# Altium schematic symbol library Symbol_Lib.SchLib: 5 symbols
Pins are listed as number, name and electrical type; pins without a type are passive.

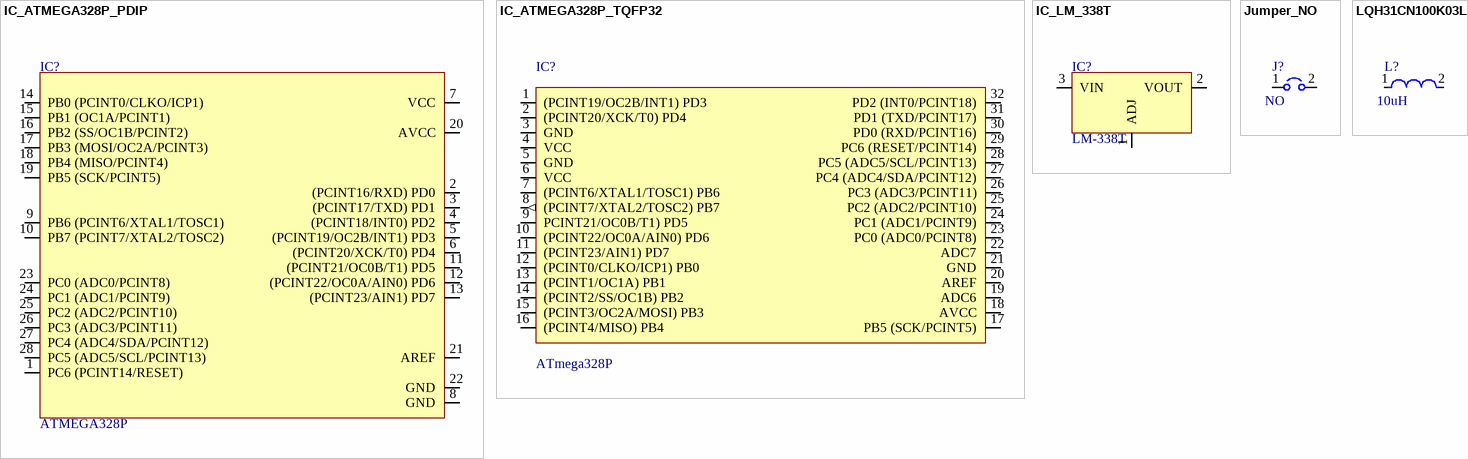
[diagram p0: symbols IC_ATMEGA328P_PDIP to LQH31CN100K03L]

## IC_ATMEGA328P_PDIP
designator IC?, comment ATMEGA328P
Microcontroller, ATmega328P, 8-bit, PDIP-28 32kB Flash
footprint DIP28_P2.54mm_7.62mm
pins: 1 PC6 (PCINT14/RESET) , 2 (PCINT16/RXD) PD0, 3 (PCINT17/TXD) PD1, 4 (PCINT18/INT0) PD2, 5 (PCINT19/OC2B/INT1) PD3, 6 (PCINT20/XCK/T0) PD4, 7 VCC (power), 8 GND (power), 9 PB6 (PCINT6/XTAL1/TOSC1), 10 PB7 (PCINT7/XTAL2/TOSC2), 11 (PCINT21/OC0B/T1) PD5, 12 (PCINT22/OC0A/AIN0) PD6, 13 (PCINT23/AIN1) PD7, 14 PB0 (PCINT0/CLKO/ICP1), 15 PB1 (OC1A/PCINT1), 16 PB2 (SS/OC1B/PCINT2), 17 PB3 (MOSI/OC2A/PCINT3), 18 PB4 (MISO/PCINT4), 19 PB5 (SCK/PCINT5), 20 AVCC (power), 21 AREF (power), 22 GND (power), 23 PC0 (ADC0/PCINT8), 24 PC1 (ADC1/PCINT9), 25 PC2 (ADC2/PCINT10), 26 PC3 (ADC3/PCINT11), 27 PC4 (ADC4/SDA/PCINT12), 28 PC5 (ADC5/SCL/PCINT13)

## IC_ATMEGA328P_TQFP32
designator IC?, comment ATmega328P
Microcontroller, ATmega328P, 8-bit, TQFP-32, 32kB Flash
footprint TQFP80P900X900X120-32N (TQFP, 32-Leads, Body 7.00x7.00mm, Pitch 0.80mm, IPC Medium Density)
pins: 1 (PCINT19/OC2B/INT1) PD3, 2 (PCINT20/XCK/T0) PD4, 3 GND (power), 4 VCC (power), 5 GND (power), 6 VCC (power), 7 (PCINT6/XTAL1/TOSC1) PB6, 8 (PCINT7/XTAL2/TOSC2) PB7 (out), 9 PCINT21/OC0B/T1) PD5, 10 (PCINT22/OC0A/AIN0) PD6, 11 (PCINT23/AIN1) PD7, 12 (PCINT0/CLKO/ICP1) PB0, 13 (PCINT1/OC1A) PB1, 14 (PCINT2/SS/OC1B) PB2, 15 (PCINT3/OC2A/MOSI) PB3, 16 (PCINT4/MISO) PB4, 17 PB5 (SCK/PCINT5), 18 AVCC (power), 19 ADC6, 20 AREF (power), 21 GND (power), 22 ADC7, 23 PC0 (ADC0/PCINT8), 24 PC1 (ADC1/PCINT9), 25 PC2 (ADC2/PCINT10), 26 PC3 (ADC3/PCINT11), 27 PC4 (ADC4/SDA/PCINT12), 28 PC5 (ADC5/SCL/PCINT13), 29 PC6 (RESET/PCINT14), 30 PD0 (RXD/PCINT16), 31 PD1 (TXD/PCINT17), 32 PD2 (INT0/PCINT18)

## IC_LM_338T
designator IC?, comment LM-338T
footprint TO-220-3
pins: 1 ADJ, 2 VOUT, 3 VIN

## Jumper_NO
designator J?, comment NO
footprint Jumper
pins: 1, 2

## LQH31CN100K03L
designator L?, comment 10uH
Wire Wound Ferrite Inductor for Power Lines 10μH ±10% 1.69Ω 230mA 1206; MPN: LQH31CN100K03L; Value: 10uH; Tolerance: 10%; Case/Package: 1206
footprint FP-LQH31CN_03-MFG
pins: 1, 2